# Altium schematic symbol library Lora.SchLib: 1 symbol
Pins are listed as number, name and electrical type; pins without a type are passive.

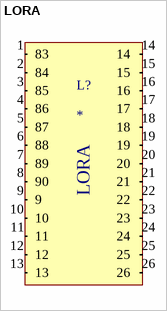
[diagram p0: symbol LORA]

## LORA
designator L?
footprint Lora (Footprint not found)
footprint PCBComponent_1
pins: 1 83, 2 84, 3 85, 4 86, 5 87, 6 88, 7 89, 8 90, 9, 10, 11, 12, 13, 14, 15, 16, 17, 18, 19, 20, 21, 22, 23, 24, 25, 26